# EAGLE library part BQ24074 (library GlacTracker)
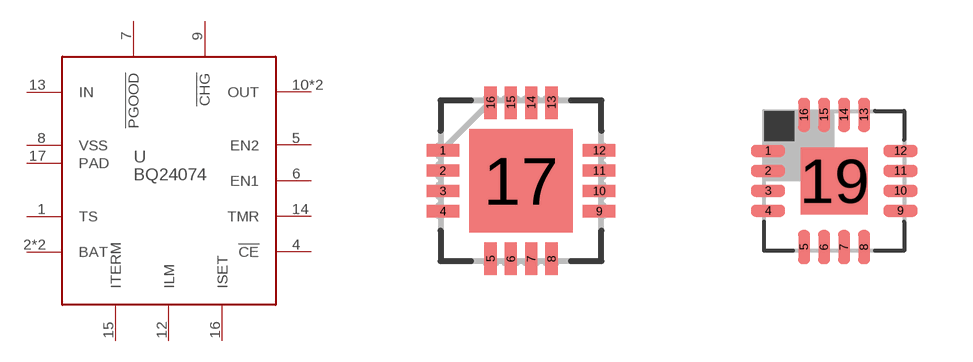
[diagram p1: symbol with the pads of QFN50P400X400X80-17N; footprints QFN50P400X400X80-17N, QFN_3X3]

Designator prefix U

## BQ24074  [QFN50P400X400X80-17N]
1  TS
2  BAT
3  BAT
4  !CE
5  EN2
6  EN1
7  !PGOOD
8  VSS
9  !CHG
10  OUT
11  OUT
12  ILM
13  IN
14  TMR
15  ITERM
16  ISET
17  PAD

## BQ24074QFN_3X3  [QFN_3X3]
1  TS
2  BAT
3  BAT
4  !CE
5  EN2
6  EN1
7  !PGOOD
8  VSS
9  !CHG
10  OUT
11  OUT
12  ILM
13  IN
14  TMR
15  ITERM
16  ISET
19  PAD

## Footprint QFN50P400X400X80-17N (pad centres in mm)
smd 0.813 x 0.305: 1 -1.956,0.762; 2 -1.956,0.254; 3 -1.956,-0.254; 4 -1.956,-0.762; 9 1.956,-0.762; 10 1.956,-0.254; 11 1.956,0.254; 12 1.956,0.762
smd 0.305 x 0.813: 5 -0.762,-1.956; 6 -0.254,-1.956; 7 0.254,-1.956; 8 0.762,-1.956; 13 0.762,1.956; 14 0.254,1.956; 15 -0.254,1.956; 16 -0.762,1.956
smd 2.591 x 2.591: 17 0,0

## Footprint QFN_3X3 (pad centres in mm)
smd 0.85 x 0.3: 1 -1.655,0.75; 2 -1.655,0.25; 3 -1.655,-0.25; 4 -1.655,-0.75; 9 1.655,-0.75; 10 1.655,-0.25; 11 1.655,0.25; 12 1.655,0.75
smd 0.3 x 0.85: 5 -0.75,-1.655; 6 -0.25,-1.655; 7 0.25,-1.655; 8 0.75,-1.655; 13 0.75,1.655; 14 0.25,1.655; 15 -0.25,1.655; 16 -0.75,1.655
smd 1.68 x 1.68: 19 0,0